# Altium schematic symbol library SMO01A.SchLib: 1 symbol
Pins are listed as number, name and electrical type; pins without a type are passive.

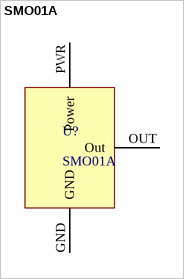
[diagram p0: symbol SMO01A]

## SMO01A
designator U?
footprint SMO01A (Silicon Microphone)
pins: GND, OUT Out, PWR Power